# EAGLE library part ADS8866 (library graftel-internal-ic)
http://www.ti.com/lit/ds/symlink/ads8866.pdf https://www.digikey.com/product-detail/en/texas-instruments/ADS8866IDGSR/296-39885-1-ND/5177762
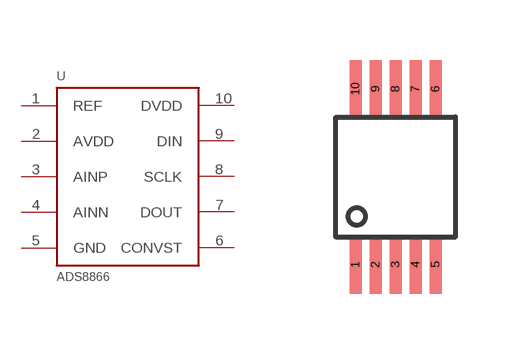
[diagram p42: symbol with the pads of TFSOP-10; footprint TFSOP-10]

Designator prefix U

## ADS8866  [TFSOP-10]
1  REF
2  AVDD
3  AINP
4  AINN
5  GND
6  CONVST
7  DOUT
8  SCLK
9  DIN
10  DVDD

## Footprint TFSOP-10 (pad centres in mm)
smd 0.3 x 1.45: 1 -1,-2.2; 2 -0.5,-2.2; 3 0,-2.2; 4 0.5,-2.2; 5 1,-2.2; 6 1,2.2; 7 0.5,2.2; 8 0,2.2; 9 -0.5,2.2; 10 -1,2.2